# EAGLE library part LM26400Y (library ld-components)
Dual 2A, 500kHz Wide Input Range Buck Regulator
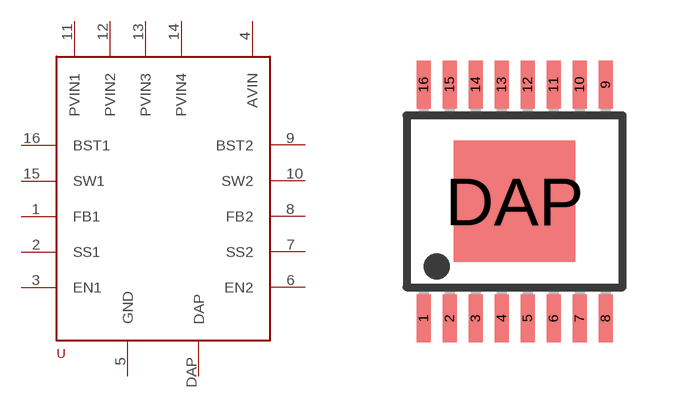
[diagram p5: symbol with the pads of ETSSOP16; footprint ETSSOP16]

Designator prefix -

## LM26400Y  [ETSSOP16]
1  FB1
2  SS1
3  EN1
4  AVIN
5  GND
6  EN2
7  SS2
8  FB2
9  BST2
10  SW2
11  PVIN1
12  PVIN2
13  PVIN3
14  PVIN4
15  SW1
16  BST1
DAP  DAP

## Footprint ETSSOP16 (pad centres in mm)
PW (R-PDSO-G8) Source: http://focus.ti.com/lit/ds/symlink/ads1271.pdf
smd 0.35 x 1.2: 1 -2.275,-2.925; 2 -1.625,-2.925; 3 -0.975,-2.925; 4 -0.325,-2.925; 5 0.325,-2.925; 6 0.975,-2.925; 7 1.625,-2.925; 8 2.275,-2.925; 9 2.275,2.925; 10 1.625,2.925; 11 0.975,2.925; 12 0.325,2.925; 13 -0.325,2.925; 14 -0.975,2.925; 15 -1.625,2.925; 16 -2.275,2.925
smd 3.048 x 3.048: DAP 0,0